# Altium footprint library Footprint.PcbLib: 139 footprints (part 8 of 9)
Each footprint in its own frame and in the unit in brackets; x right, y up, seen from the top. Pads: shape width x height; smd on the part's side, far side on the other; paste and mask are expansions set on the pad; w line width, h text height; cw(c..) or ccw(c..) is an arc to the next point about the centre after c.
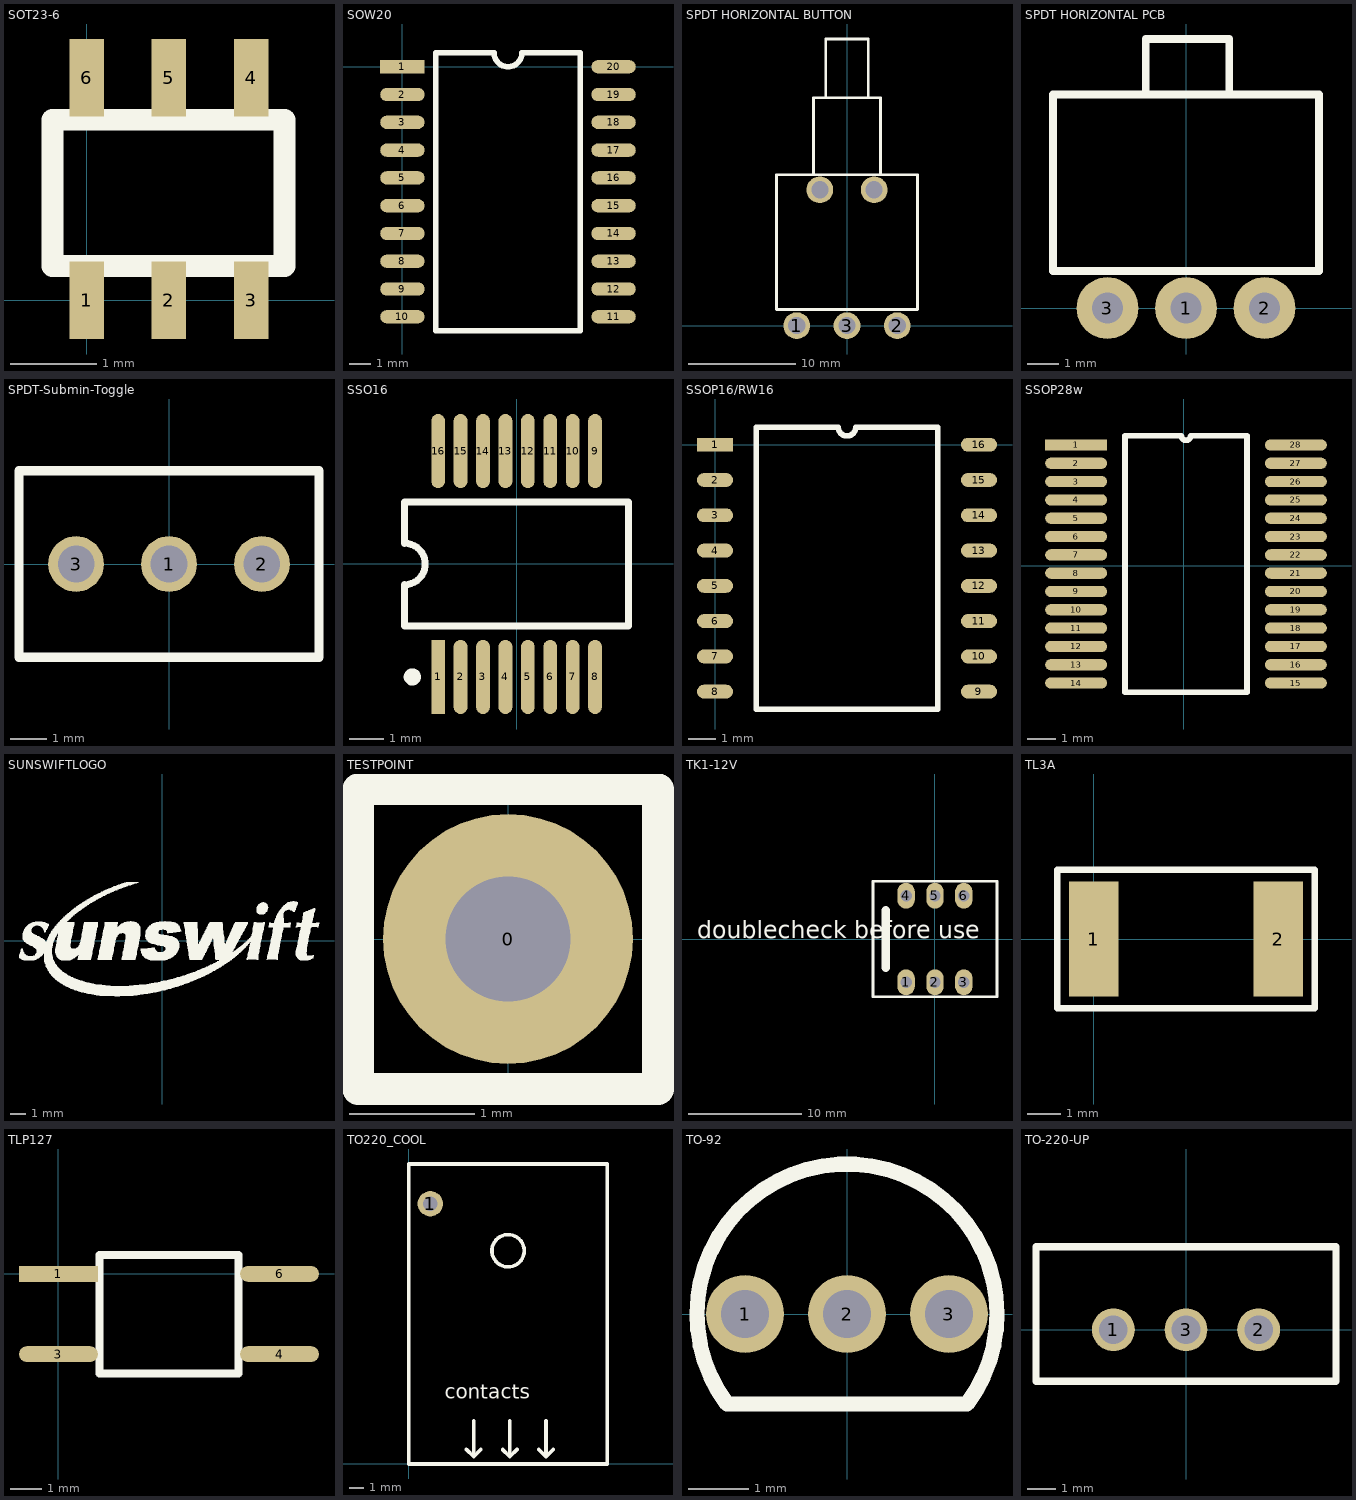
[diagram p7: the footprints below, top view; thin cyan lines are the x and y axes]

## SOT23-6 [mm]
height 1.45
pads (6):
  rect 0.4x0.9 smd: 1(0,0) 2(0.953,0) 3(1.91,0) 4(1.91,2.59) 5(0.953,2.59) 6(0,2.59)
TopOverlay:
  lines w0.254: -0.4,0.4 -0.4,2.1 2.3,2.1 2.3,0.4 -0.4,0.4

## SOW20 [mil]
pads (20):
  rect 80x24 smd: 1(0,0)
  oval 80x24 smd: 2(0,-50) 3(0,-100) 4(0,-150) 5(0,-200) 6(0,-250) 7(0,-300) 8(0,-350) 9(0,-400) 10(0,-450) 11(380,-450) 12(380,-400) 13(380,-350) 14(380,-300) 15(380,-250) 16(380,-200) 17(380,-150) 18(380,-100) 19(380,-50) 20(380,0)
TopOverlay:
  lines w10: 60,-475 60,25 165,25 ccw(c190,25) 215,25 320,25 320,-475 60,-475

## SPDT HORIZONTAL BUTTON [mm]
pads (5):
  round 2.5 hole 1.6: 1(-4.7,0) 2(4.7,0) 3(0,0) ""(-2.54,12.7) ""(2.54,12.7)
TopOverlay:
  lines w0.254: -3.13,14.1 -3.13,21.3 3.13,21.3 3.13,14.1 ; -2,21.4 -2,26.8 2,26.8 2,21.3 ; -6.6,1.5 6.6,1.5 6.6,14.1 -6.6,14.1 -6.6,1.5

## SPDT HORIZONTAL PCB [mm]
pads (3):
  round 2 hole 1: 1(0,0) 2(2.54,0) 3(-2.54,0)
TopOverlay:
  lines w0.254: -1.3,6.9 -1.3,8.7 1.4,8.7 1.4,6.9 ; -4.3,1.2 4.3,1.2 4.3,6.9 -4.3,6.9 -4.3,1.2

## SPDT-Submin-Toggle [mil]
pads (3):
  round 60 hole 39.37: 1(0,0) 2(100,0) 3(-100,0)
TopOverlay:
  lines w10: -161.42,-100.39 -161.42,100.39 161.42,100.39 161.42,-100.39 -161.42,-100.39

## SSO16 [mm]
pads (16):
  rect 0.4x2.15 smd: 1(-2.275,-3.275)
  oval 0.4x2.15 smd: 2(-1.625,-3.275) 3(-0.975,-3.275) 4(-0.325,-3.275) 5(0.325,-3.275) 6(0.975,-3.275) 7(1.625,-3.275) 8(2.275,-3.275) 9(2.275,3.275) 10(1.625,3.275) 11(0.975,3.275) 12(0.325,3.275) 13(-0.325,3.275) 14(-0.975,3.275) 15(-1.625,3.275) 16(-2.275,3.275)
TopOverlay:
  circle w0.25: c-3.025,-3.275 r0.125
  lines w0.2: -3.25,-1.8 3.25,-1.8 3.25,1.8 -3.25,1.8 -3.25,0.6 cw(c-3.25,0) -3.25,-0.6 -3.25,-1.8

## SSOP16/RW16 [mm] "16-Lead Standard Small Outline Package [SOIC] Wide Body (RW-16)"
height 2.7
pads (16):
  rect 1.3x0.5 smd: 1(0,0)
  oval 1.3x0.5 smd: 2(0,-1.27) 3(0,-2.54) 4(0,-3.81) 5(0,-5.08) 6(0,-6.35) 7(0,-7.62) 8(0,-8.89) 9(9.5,-8.89) 10(9.5,-7.62) 11(9.5,-6.35) 12(9.5,-5.08) 13(9.5,-3.81) 14(9.5,-2.54) 15(9.5,-1.27) 16(9.5,0)
TopOverlay:
  lines w0.2: 1.485,-9.525 8.015,-9.525 8.015,0.635 5.067,0.635 cw(c4.75,0.635) 4.432,0.635 1.485,0.635 1.485,-9.525

## SSOP28w [mm]
pads (28):
  rect 2.2x0.4 smd: 1(-3.82,4.28)
  oval 2.2x0.4 smd: 2(-3.82,3.63) 3(-3.82,2.98) 4(-3.82,2.33) 5(-3.82,1.68) 6(-3.82,1.03) 7(-3.82,0.38) 8(-3.82,-0.27) 9(-3.82,-0.92) 10(-3.82,-1.57) 11(-3.82,-2.22) 12(-3.82,-2.87) 13(-3.82,-3.52) 14(-3.82,-4.17) 15(3.98,-4.17) 16(3.98,-3.52) 17(3.98,-2.87) 18(3.98,-2.22) 19(3.98,-1.57) 20(3.98,-0.92) 21(3.98,-0.27) 22(3.98,0.38) 23(3.98,1.03) 24(3.98,1.68) 25(3.98,2.33) 26(3.98,2.98) 27(3.98,3.63) 28(3.98,4.28)
TopOverlay:
  lines w0.2: -2.085,-4.495 2.245,-4.495 2.245,4.605 0.242,4.605 cw(c0.08,4.605) -0.082,4.605 -2.085,4.605 -2.085,-4.495

## SUNSWIFTLOGO [mm] "Sunswift Logo"
TopOverlay:
  drawing of 1659 lines, arcs and shapes, not listed

## TESTPOINT [mm] "Test point pad"
pads (1):
  round 2 hole 1: 0(0,0)
TopOverlay:
  lines w0.254: -1.2,-1.2 1.2,-1.2 1.2,1.2 -1.2,1.2 -1.2,-1.2

## TK1-12V [mil]
pads (6):
  oval 60x90 hole 39.37: 1(-100,-150) 2(0,-150) 3(100,-150) 4(-100,150) 5(0,150) 6(100,150)
TopOverlay:
  lines w10: -215,-200 215,-200 215,200 -215,200 -215,-200
  lines w30: -170,-100 -170,100
  text "doublecheck before use" at -824.8,1.97 h60

## TL3A [mm]
pads (2):
  rect 1.5x3.5 smd: 1(0,0) 2(5.6,0)
TopOverlay:
  lines w0.2: -1.1,-2.1 6.7,-2.1 6.7,2.1 -1.1,2.1 -1.1,0.4 -1.1,-2.1

## TLP127 [mm]
pads (4):
  rect 2.5x0.5 smd: 1(0,0)
  oval 2.5x0.5 smd: 3(0,-2.54) 4(7,-2.54) 6(7,0)
TopOverlay:
  lines w0.254: 1.3,-3.15 1.3,0.6 5.7,0.6 5.7,-3.15 1.3,-3.15

## TO220_COOL [mil]
pads (1):
  round 70 hole 40: 1(60,720)
TopOverlay:
  circle w10: c275.28,590 r44.72
  lines w10: 160,40 180,20 ; 180,120 180,20 ; 200,40 180,20 ; 260,40 280,20 ; 280,120 280,20 ; 300,40 280,20 ; 360,40 380,20 ; 380,120 380,20 ; 400,40 380,20 ; 0,0 0,830 550,830 550,0 0,0
  text "contacts" at 100,180 h40

## TO-92 [mm]
pads (3):
  round 1.3 hole 0.8: 1(-1.7,0) 2(0,0) 3(1.7,0)
TopOverlay:
  lines w0.254: -2,-1.5 cw(c0,0) 2,-1.5 -2,-1.5

## TO-220-UP [mm]
pads (3):
  round 1.5 hole 1: 1(-2.54,0) 2(2.54,0) 3(0,0)
TopOverlay:
  lines w0.254: -5.25,-1.8 5.25,-1.8 5.25,2.9 -5.25,2.9 -5.25,-1.8